# Altium footprint library SectionC_BreakOut.PcbLib: 2 footprints
Each footprint in its own frame and in the unit in brackets; x right, y up, seen from the top. Pads: shape width x height; smd on the part's side, far side on the other; paste and mask are expansions set on the pad; w line width, h text height; cw(c..) or ccw(c..) is an arc to the next point about the centre after c.
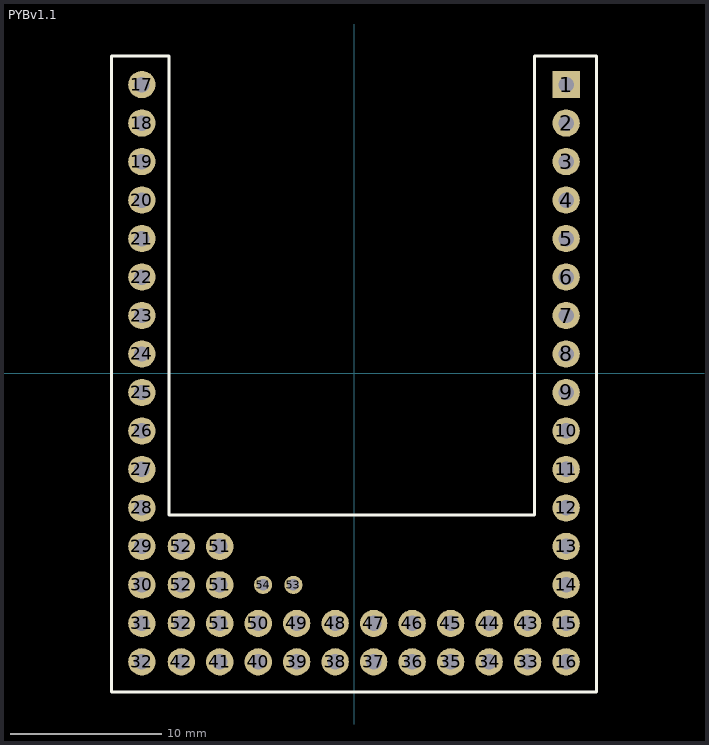
[diagram p0: the footprints below, top view; thin cyan lines are the x and y axes]

## PCBComponent_1 [mm]

## PYBv1.1 [mm]
pads (58):
  rect 1.8x1.8 hole 1.02: 1(14,19.05)
  round 1.8 hole 1.02: 2(14,16.51) 3(14,13.97) 4(14,11.43) 5(14,8.89) 6(14,6.35) 7(14,3.81) 8(14,1.27) 9(14,-1.27) 10(14,-3.81) 11(14,-6.35) 12(14,-8.89) 13(14,-11.43) 14(14,-13.97) 15(14,-16.51) 16(14,-19.05) 17(-14,19.05) 18(-14,16.51) 19(-14,13.97) 20(-14,11.43) 21(-14,8.89) 22(-14,6.35) 23(-14,3.81) 24(-14,1.27) 25(-14,-1.27) 26(-14,-3.81) 27(-14,-6.35) 28(-14,-8.89) 29(-14,-11.43) 30(-14,-13.97) 31(-14,-16.51) 32(-14,-19.05) 33(11.46,-19.05) 34(8.92,-19.05) 35(6.38,-19.05) 36(3.84,-19.05) 37(1.3,-19.05) 38(-1.24,-19.05) 39(-3.78,-19.05) 40(-6.32,-19.05) 41(-8.86,-19.05) 42(-11.4,-19.05) 43(11.46,-16.51) 44(8.92,-16.51) 45(6.38,-16.51) 46(3.84,-16.51) 47(1.3,-16.51) 48(-1.24,-16.51) 49(-3.78,-16.51) 50(-6.32,-16.51) 51(-8.86,-16.51) 51(-8.86,-13.97) 51(-8.86,-11.43) 52(-11.4,-16.51) 52(-11.4,-13.97) 52(-11.4,-11.43)
  round 1.2 hole 0.75: 53(-4,-13.97) 54(-6,-13.97)
Top Overlay:
  lines w0.2: -16,-21.05 -16,20.95 -12.2,20.95 -12.2,-9.35 11.9,-9.35 11.9,20.95 16,20.95 16,-13.35 16,-21.05 -16,-21.05